# Altium integrated library B3FS-4052P.IntLib: 1 symbol
Pins are listed as number, name and electrical type; pins without a type are passive.

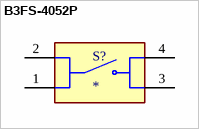
[diagram p0: symbol B3FS-4052P]

## B3FS-4052P
designator S?
MP: B3FS-4052P; Package: None; Price: None; Value: *; Availability: Unavailable
footprint SW_B3FS-4052P
pins: 1, 2, 3, 4